# EAGLE library part CAM (library Library)
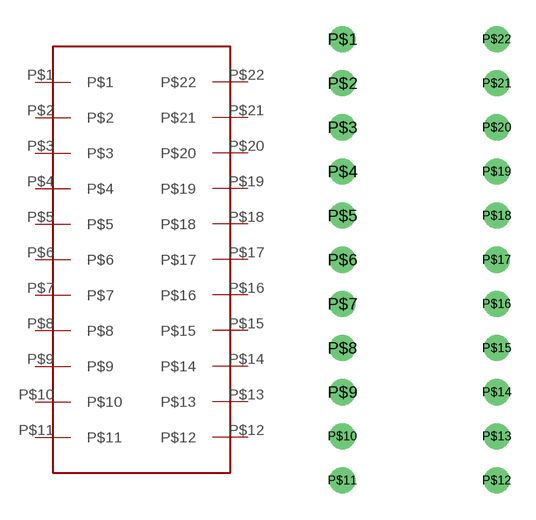
[diagram p16: symbol with the pads of CAM; footprint CAM]

Designator prefix -

## CAM  [CAM]
P$1  P$1
P$2  P$2
P$3  P$3
P$4  P$4
P$5  P$5
P$6  P$6
P$7  P$7
P$8  P$8
P$9  P$9
P$10  P$10
P$11  P$11
P$12  P$12
P$13  P$13
P$14  P$14
P$15  P$15
P$16  P$16
P$17  P$17
P$18  P$18
P$19  P$19
P$20  P$20
P$21  P$21
P$22  P$22

## Footprint CAM (pad centres in mm)
drill 1: P$1 -5.08,10.16; P$2 -5.08,7.62; P$3 -5.08,5.08; P$4 -5.08,2.54; P$5 -5.08,0; P$6 -5.08,-2.54; P$7 -5.08,-5.08; P$8 -5.08,-7.62; P$9 -5.08,-10.16; P$10 -5.08,-12.7; P$11 -5.08,-15.24; P$12 3.81,-15.24; P$13 3.81,-12.7; P$14 3.81,-10.16; P$15 3.81,-7.62; P$16 3.81,-5.08; P$17 3.81,-2.54; P$18 3.81,0; P$19 3.81,2.54; P$20 3.81,5.08; P$21 3.81,7.62; P$22 3.81,10.16